# Altium integrated library B130-13-F.IntLib: 1 symbol
Pins are listed as number, name and electrical type; pins without a type are passive.

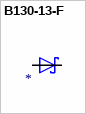
[diagram p0: symbol B130-13-F]

## B130-13-F
designator ?
Diode Schottky 30V 1A Surface Mount SMA; MF: Diodes Inc.; MP: B130-13-F; Value: *; Package: DO-214 Diodes Inc.; Price: None; Availability: Unavailable; SnapEDA_Link: https://www.snapeda.com/parts/B130-13-F/Diodes%20Inc./view-part/275058/?ref=snap
footprint SMA
pins: A, C